# EAGLE library part NTS0102 (library nxp_60)
Dual supply translating transceiver; open drain; auto direction sensing
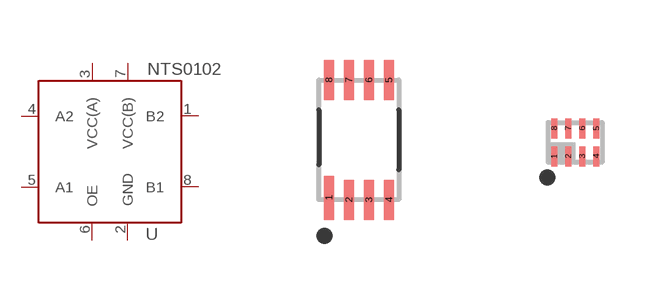
[diagram p87: symbol with the pads of SOT996-2/3; footprints SOT996-2/3, SOT1089-1]

Designator prefix U

## NTS0102GD  [SOT996-2/3]
1  B2  out
2  GND  out
3  VCC(A)  out
4  A2  out
5  A1  out
6  OE  out
7  VCC(B)  out
8  B1  out

## NTS0102GF  [SOT1089-1]
Pads as for SOT996-2/3

## NTS0102GU  [SOT1160-1]
1  A2  out
2  VCC(A)  out
4  OE  out
5  B2  out
6  VCC(B)  out
8  B1  out
9  GND  out
10  A1  out

## NTS0102DP  [SOT505-2]
Pads as for SOT996-2/3

## Footprint SOT996-2/3 (pad centres in mm)
SOT996-2/3 XSON8U: plastic extremely thin small outline package; no leads;8 terminals; UTLP based; body 3 x 2 x 0.5 mm JEDEC: IEC: -- JEITA: --
smd 0.25 x 1.1: 1 -0.75,-1.45
smd 0.25 x 1: 2 -0.25,-1.5; 3 0.25,-1.5; 4 0.75,-1.5; 5 0.75,1.5; 6 0.25,1.5; 7 -0.25,1.5; 8 -0.75,1.5

## Footprint SOT1089-1 (pad centres in mm)
SOT1089-1 XSON8: plastic, extremely thin small outline package; no leads; 8 terminals; body 1 x 1.35 x 0.5 mm JEDEC: -- IEC: -- JEITA: --
smd 0.15 x 0.5: 1 -0.525,-0.35; 2 -0.175,-0.35; 3 0.175,-0.35; 4 0.525,-0.35; 5 0.525,0.35; 6 0.175,0.35; 7 -0.175,0.35; 8 -0.525,0.35

## Footprint SOT1160-1 (pad centres in mm)
SOT1160-1 XQFN10: plastic, extremely thin quad flat package; no leads;10 terminals; body 1.40 x 1.80 x 0.50 mm JEDEC: -- IEC: -- JEITA: --
smd 0.65 x 0.22: 1 -0.525,0.2
smd 0.55 x 0.22: 2 -0.575,-0.2; 6 0.575,-0.2; 7 0.575,0.2
smd 0.22 x 0.55: 3 -0.4,-1; 4 0,-1; 5 0.4,-1; 8 0.4,1; 9 0,1; 10 -0.4,1

## Footprint SOT505-2 (pad centres in mm)
SOT505-2 TSSOP8: plastic thin shrink small outline package; 8 leads; body width 3 mm JEDEC: -- IEC: --
smd 0.5 x 0.85: 1 -1.025,-1.775; 4 1.025,-1.775; 5 1.025,1.775; 8 -1.025,1.775
smd 0.4 x 0.85: 2 -0.325,-1.775; 3 0.325,-1.775; 6 0.325,1.775; 7 -0.325,1.775